# Altium footprint library mixer.PcbLib: 4 footprints
Each footprint in its own frame and in the unit in brackets; x right, y up, seen from the top. Pads: shape width x height; smd on the part's side, far side on the other; paste and mask are expansions set on the pad; w line width, h text height; cw(c..) or ccw(c..) is an arc to the next point about the centre after c.
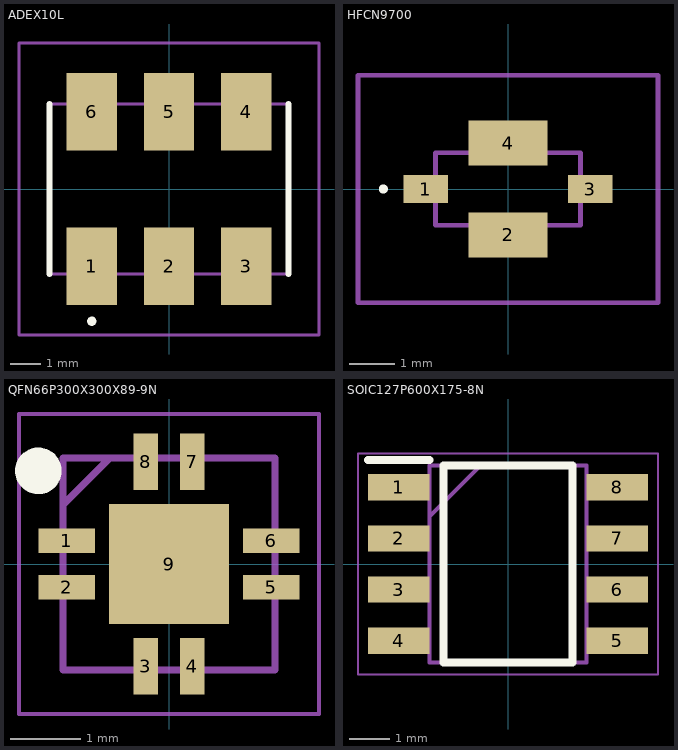
[diagram p0: the footprints below, top view; thin cyan lines are the x and y axes]

## ADEX10L [mm]
pads (6):
  rect 1.65x2.54 smd: 1(-2.54,-2.54) 2(0,-2.54) 3(2.54,-2.54) 4(2.54,2.54) 5(0,2.54) 6(-2.54,2.54)
Top Overlay:
  lines w0.2: -2.54,-4.4 ccw(c-2.54,-4.35) -2.54,-4.3 ; -2.54,-4.4 cw(c-2.54,-4.35) -2.54,-4.3 ; -2.54,-4.4 ccw(c-2.54,-4.35) -2.54,-4.3 ; -3.935,-2.795 -3.935,2.795 -3.935,-2.795 ; 3.935,-2.8 3.935,2.795 3.935,-2.8
Mechanical 13:
  lines w0.1: -3.935,-2.795 -3.935,2.795 3.935,2.795 3.935,-2.795 -3.935,-2.795
Mechanical 15:
  lines w0.1: -4.935,-4.81 -4.935,4.81 4.935,4.81 4.935,-4.81 -4.935,-4.81
3D body "ADEX-10L+.stp": height 2.94, standoff 0, extent -3.935,-2.795 3.935,2.795

## HFCN9700 [mm]
pads (4):
  rect 0.99x0.61 smd: 1(-1.815,0) 3(1.815,0)
  rect 1.75x0.99 smd: 2(0,-1.015) 4(0,1.015)
Top Overlay:
  lines w0.1: -2.8,0 ccw(c-2.75,0) -2.7,0 ccw(c-2.75,0) -2.8,0
Mechanical 13:
  lines w0.1: -1.6,-0.8 1.6,-0.8 1.6,0.8 -1.6,0.8 -1.6,-0.8
Mechanical 15:
  lines w0.1: -3.31,-2.51 3.31,-2.51 3.31,2.51 -3.31,2.51 -3.31,-2.51
3D body "HFCN-9700+.stp": height 1.14, standoff 0, extent -2.249,-1.411 2.249,1.411

## QFN66P300X300X89-9N [mm]
pads (9):
  rect 0.8x0.35 smd: 1(-1.45,0.33) 2(-1.45,-0.33) 5(1.45,-0.33) 6(1.45,0.33)
  rect 0.35x0.8 smd: 3(-0.33,-1.45) 4(0.33,-1.45) 7(0.33,1.45) 8(-0.33,1.45)
  rect 1.702x1.702 smd: 9(0,0)
Top Overlay:
  circle w0.33: c-1.85,1.32 r0.165
Mechanical 13:
  lines w0.1: -1.5,0.84 -0.84,1.5 ; -1.5,-1.5 1.5,-1.5 1.5,1.5 -1.5,1.5 -1.5,-1.5
Mechanical 15:
  lines w0.05: -2.125,-2.125 2.125,-2.125 2.125,2.125 -2.125,2.125 -2.125,-2.125
3D body "AVA-183A+.stp": height 0.89, standoff 0, extent -1.55,-1.55 1.55,1.55

## SOIC127P600X175-8N [mm]
pads (8):
  rect 1.525x0.65 smd: 1(-2.712,1.905) 2(-2.712,0.635) 3(-2.712,-0.635) 4(-2.712,-1.905) 5(2.712,-1.905) 6(2.712,-0.635) 7(2.712,0.635) 8(2.712,1.905)
Top Overlay:
  lines w0.2: -3.475,2.58 -1.95,2.58 ; -1.6,-2.45 1.6,-2.45 1.6,2.45 -1.6,2.45 -1.6,-2.45
Mechanical 13:
  lines w0.1: -1.95,1.18 -0.68,2.45 ; -1.95,-2.45 1.95,-2.45 1.95,2.45 -1.95,2.45 -1.95,-2.45
Mechanical 15:
  lines w0.05: -3.725,-2.75 3.725,-2.75 3.725,2.75 -3.725,2.75 -3.725,-2.75
3D body "NE555DR.stp": height 1.75, standoff 0, extent -3,-2.45 3,2.45